# Altium integrated library XC7S25-1FTGB196C.IntLib: 1 symbol
Pins are listed as number, name and electrical type; pins without a type are passive.

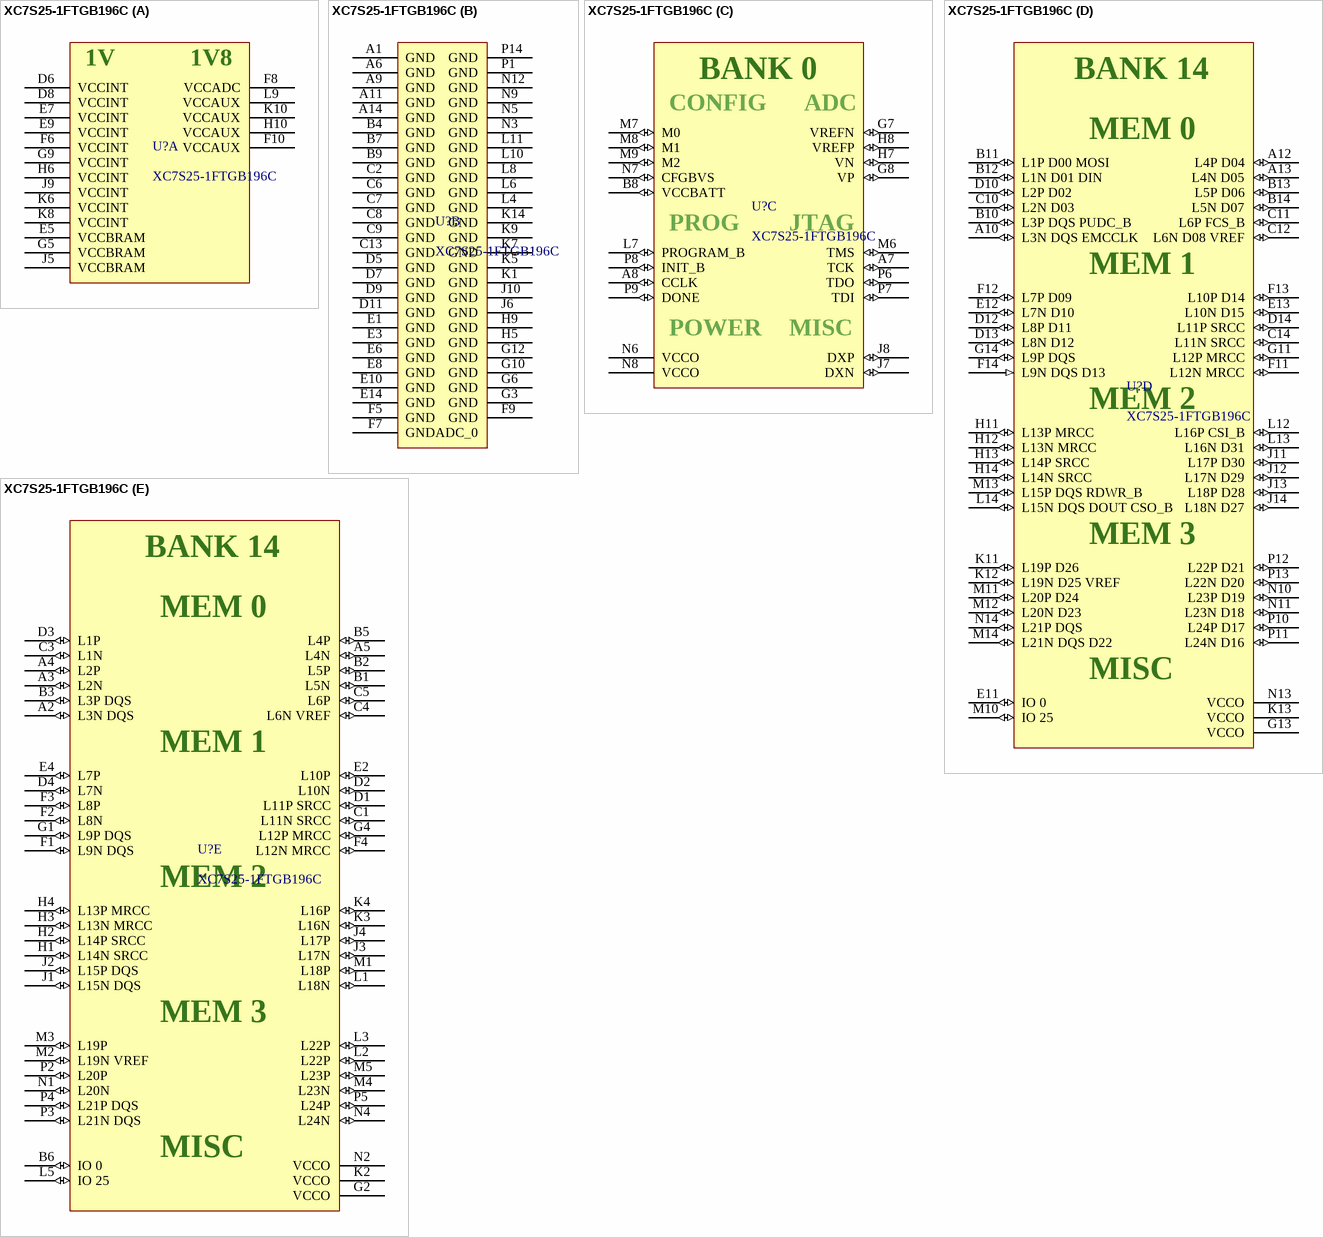
[diagram p0: symbol XC7S25-1FTGB196C]

## XC7S25-1FTGB196C
designator U?
Supplier 1: Digi-Key
footprint FTGB196 Package (BGA, 196-Leads, Body 15.00x15.00mmx1.50mm, Pitch 1.00mm)
part A pins: D6 VCCINT (power), D8 VCCINT (power), E5 VCCBRAM (power), E7 VCCINT (power), E9 VCCINT (power), F6 VCCINT (power), F8 VCCADC, F10 VCCAUX (power), G5 VCCBRAM (power), G9 VCCINT (power), H6 VCCINT (power), H10 VCCAUX (power), J5 VCCBRAM (power), J9 VCCINT (power), K6 VCCINT (power), K8 VCCINT (power), K10 VCCAUX (power), L9 VCCAUX (power)
part B pins: A1 GND (power), A6 GND (power), A9 GND (power), A11 GND (power), A14 GND (power), B4 GND (power), B7 GND (power), B9 GND (power), C2 GND (power), C6 GND (power), C7 GND (power), C8 GND (power), C9 GND (power), C13 GND (power), D5 GND (power), D7 GND (power), D9 GND (power), D11 GND (power), E1 GND (power), E3 GND (power), E6 GND (power), E8 GND (power), E10 GND (power), E14 GND (power), F5 GND (power), F7 GNDADC_0, F9 GND (power), G3 GND (power), G6 GND (power), G10 GND (power), G12 GND (power), H5 GND (power), H9 GND (power), J6 GND (power), J10 GND (power), K1 GND (power), K5 GND (power), K7 GND (power), K9 GND (power), K14 GND (power), L4 GND (power), L6 GND (power), L8 GND (power), L10 GND (power), L11 GND (power), N3 GND (power), N5 GND (power), N9 GND (power), N12 GND (power), P1 GND (power), P14 GND (power)
part C pins: A7 TCK (io), A8 CCLK (io), B8 VCCBATT (io), G7 VREFN (io), G8 VP (io), H7 VN (io), H8 VREFP (io), J7 DXN (io), J8 DXP (io), L7 PROGRAM_B (io), M6 TMS (io), M7 M0 (io), M8 M1 (io), M9 M2 (io), N6 VCCO (power), N7 CFGBVS (io), N8 VCCO (power), P6 TDO (io), P7 TDI (io), P8 INIT_B (io), P9 DONE (io)
part D pins: A10 L3N DQS EMCCLK (io), A12 L4P D04 (io), A13 L4N D05 (io), B10 L3P DQS PUDC_B (io), B11 L1P D00 MOSI (io), B12 L1N D01 DIN (io), B13 L5P D06 (io), B14 L5N D07 (io), C10 L2N D03 (io), C11 L6P FCS_B (io), C12 L6N D08 VREF (io), C14 L11N SRCC (io), D10 L2P D02 (io), D12 L8P D11 (io), D13 L8N D12 (io), D14 L11P SRCC (io), E11 IO 0 (io), E12 L7N D10 (io), E13 L10N D15 (io), F11 L12N MRCC (io), F12 L7P D09 (io), F13 L10P D14 (io), F14 L9N DQS D13 (in), G11 L12P MRCC (io), G13 VCCO (power), G14 L9P DQS (io), H11 L13P MRCC (io), H12 L13N MRCC (io), H13 L14P SRCC (io), H14 L14N SRCC (io), J11 L17P D30 (io), J12 L17N D29 (io), J13 L18P D28 (io), J14 L18N D27 (io), K11 L19P D26 (io), K12 L19N D25 VREF (io), K13 VCCO (power), L12 L16P CSI_B (io), L13 L16N D31 (io), L14 L15N DQS DOUT CSO_B (io), M10 IO 25 (io), M11 L20P D24 (io), M12 L20N D23 (io), M13 L15P DQS RDWR_B (io), M14 L21N DQS D22 (io), N10 L23P D19 (io), N11 L23N D18 (io), N13 VCCO (power), N14 L21P DQS (io), P10 L24P D17 (io), P11 L24N D16 (io), P12 L22P D21 (io), P13 L22N D20 (io)
part E pins: A2 L3N DQS (io), A3 L2N (io), A4 L2P (io), A5 L4N (io), B1 L5N (io), B2 L5P (io), B3 L3P DQS (io), B5 L4P (io), B6 IO 0 (io), C1 L11N SRCC (io), C3 L1N (io), C4 L6N VREF (io), C5 L6P (io), D1 L11P SRCC (io), D2 L10N (io), D3 L1P (io), D4 L7N (io), E2 L10P (io), E4 L7P (io), F1 L9N DQS (io), F2 L8N (io), F3 L8P (io), F4 L12N MRCC (io), G1 L9P DQS (io), G2 VCCO (power), G4 L12P MRCC (io), H1 L14N SRCC (io), H2 L14P SRCC (io), H3 L13N MRCC (io), H4 L13P MRCC (io), J1 L15N DQS (io), J2 L15P DQS (io), J3 L17N (io), J4 L17P (io), K2 VCCO (power), K3 L16N (io), K4 L16P (io), L1 L18N (io), L2 L22P (io), L3 L22P (io), L5 IO 25 (io), M1 L18P (io), M2 L19N VREF (io), M3 L19P (io), M4 L23N (io), M5 L23P (io), N1 L20N (io), N2 VCCO (power), N4 L24N (io), P2 L20P (io), P3 L21N DQS (io), P4 L21P DQS (io), P5 L24P (io)
part A text: 1V; 1V8
part C text: BANK 0; CONFIG; ADC; PROG; JTAG; POWER; MISC
part D text: BANK 14; MEM 0; MEM 1; MEM 2; MEM 3; MISC
part E text: BANK 14; MEM 0; MEM 1; MEM 2; MEM 3; MISC